# EAGLE library part RN-4 (library FSAE Electric (Alexander Ray's conflicted copy 2016-04-02))
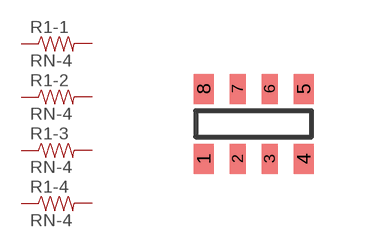
[diagram p60: symbol with the pads of MNR14; footprint MNR14]

Designator prefix R1; gates -1=R -2=R -3=R -4=R

## RN-4_1K (PARTNO: MNR14ERAPJ102)  [MNR14]
1  -1:1  pas
2  -2:1  pas
3  -3:1  pas
4  -4:1  pas
5  -4:2  pas
6  -3:2  pas
7  -2:2  pas
8  -1:2  pas

## RN-4_10K (PARTNO: MNR14ERAPJ103)  [MNR14]
Pads as for MNR14

## RN-4_100K (PARTNO: MNR14ERAPJ104)  [MNR14]
Pads as for MNR14

## RN-4_330 (PARTNO: MNR14ERAPJ331)  [MNR14]
Pads as for MNR14

## RN-4_2K (PARTNO: MNR14ERAPJ202)  [MNR14]
Pads as for MNR14

## RN-4_100 (PARTNO: MNR14E0APJ101)  [MNR14]
Pads as for MNR14

## RN-4_2.2K (PARTNO: MNR14ERAPJ222)  [MNR14]
Pads as for MNR14

## Footprint MNR14 (pad centres in mm)
smd 0.5 x 0.75: 1 -1.25,-0.9; 4 1.25,-0.9; 5 1.25,0.85; 8 -1.25,0.85
smd 0.4 x 0.75: 2 -0.4,-0.9; 3 0.4,-0.9; 6 0.4,0.85; 7 -0.4,0.85